# EAGLE library part ADS1219?* (library Soil Power Sensor)
24-bit, 1kSPS, 4-ch general-purpose delta-sigma ADC with I2C interface and external Vref inputs
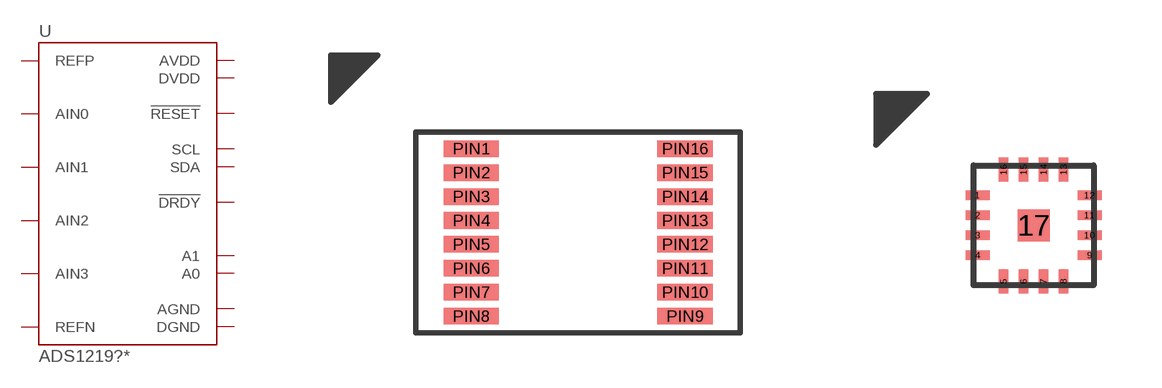
[diagram p12: symbol with the pads of TSSOP65P640X120-16; footprints TSSOP65P640X120-16, WQFN50P300X300X80-16TPN]

Designator prefix U

## ADS1219IPW (AUTHOR: John Madden <jmadden173@pm.me>; DATE_CREATED: 2023-09-01; DATE_MODIFIED: 2023-09-01; MFC: TI; MPN: ADS1219IPW; REF: https://www.ti.com/product/ADS1219), ADS1219IPWR (AUTHOR: John Madden <jmadden173@pm.me>; DATE_CREATED: 2023-09-01; DATE_MODIFIED: 2023-09-01; MFC: TI; MPN: ADS1219IPWR; REF: https://www.ti.com/product/ADS1219), ADS1219IPWT (AUTHOR: John Madden <jmadden173@pm.me>; DATE_CREATED: 2023-09-01; DATE_MODIFIED: 2023-09-01; MFC: TI; MPN: ADS1219IPWT; REF: https://www.ti.com/product/ADS1219)  [TSSOP65P640X120-16]
PIN1  A0
PIN2  A1
PIN3  !RESET
PIN4  DGND
PIN5  AGND
PIN6  AIN3
PIN7  AIN2
PIN8  REFN
PIN9  REFP
PIN10  AIN1
PIN11  AIN0
PIN12  AVDD
PIN13  DVDD
PIN14  !DRDY
PIN15  SDA
PIN16  SCL

## ADS1219IRTER (AUTHOR: John Madden <jmadden173@pm.me>; DATE_CREATED: 2023-09-01; DATE_MODIFIED: 2023-09-01; MFC: TI; MPN: ADS1219IRTER), ADS1219IRTET (AUTHOR: John Madden <jmadden173@pm.me>; DATE_CREATED: 2023-09-01; DATE_MODIFIED: 2023-09-01; MFC: TI; MPN: ADS1219IRTET)  [WQFN50P300X300X80-16TPN]
1  !RESET
2  DGND
3  AGND
4  AIN3
5  AIN2
6  REFN
7  REFP
8  AIN1
9  AIN0
10  AVDD
11  DVDD
12  !DRDY
13  SDA
14  SCL
15  A0
16  A1

## Footprint TSSOP65P640X120-16 (pad centres in mm)
smd 1.5 x 0.45: PIN1 0,0; PIN2 0,-0.65; PIN3 0,-1.3; PIN4 0,-1.95; PIN5 0,-2.6; PIN6 0,-3.25; PIN7 0,-3.9; PIN8 0,-4.55; PIN9 5.8,-4.55; PIN10 5.8,-3.9; PIN11 5.8,-3.25; PIN12 5.8,-2.6; PIN13 5.8,-1.95; PIN14 5.8,-1.3; PIN15 5.8,-0.65; PIN16 5.8,0

## Footprint WQFN50P300X300X80-16TPN (pad centres in mm)
smd 0.6 x 0.24: 1 0,0; 2 0,-0.5; 3 0,-1; 4 0,-1.5; 9 2.8,-1.5; 10 2.8,-1; 11 2.8,-0.5; 12 2.8,0
smd 0.24 x 0.6: 5 0.65,-2.15; 6 1.15,-2.15; 7 1.65,-2.15; 8 2.15,-2.15; 13 2.15,0.65; 14 1.65,0.65; 15 1.15,0.65; 16 0.65,0.65
smd 0.8 x 0.8: 17 1.4,-0.75